# Altium footprint library ACS711EEXLT-15AB-T.PcbLib: 1 footprints
Each footprint in its own frame and in the unit in brackets; x right, y up, seen from the top. Pads: shape width x height; smd on the part's side, far side on the other; paste and mask are expansions set on the pad; w line width, h text height; cw(c..) or ccw(c..) is an arc to the next point about the centre after c.
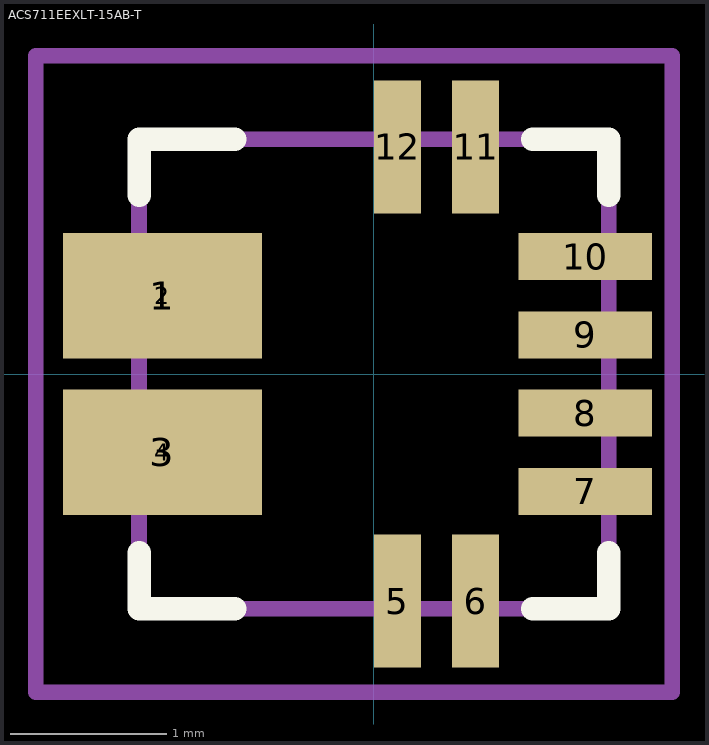
[diagram p0: the footprint, top view; thin cyan lines are the x and y axes]

## ACS711EEXLT-15AB-T [mm]
pads (12):
  rect 1.27x0.8 smd: 1(-1.35,0.5) 3(-1.35,-0.5)
  rect 0.2x0.2 smd: 2(-1.35,0.5) 4(-1.35,-0.5)
  rect 0.3x0.85 smd: 5(0.15,-1.45) 6(0.65,-1.45) 11(0.65,1.45) 12(0.15,1.45)
  rect 0.85x0.3 smd: 7(1.35,-0.75) 8(1.35,-0.25) 9(1.35,0.25) 10(1.35,0.75)
Top Overlay:
  lines w0.15: -1.5,-1.143 -1.5,-1.5 -0.889,-1.5 ; -1.5,1.143 -1.5,1.5 -0.889,1.5 ; 1.016,-1.5 1.5,-1.5 1.5,-1.143 ; 1.016,1.5 1.5,1.5 1.5,1.143
Mechanical 13:
  lines w0.1: -1.5,-1.5 -1.5,1.5 1.5,1.5 1.5,-1.5 -1.5,-1.5
Mechanical 15:
  lines w0.1: -2.159,-2.032 -2.159,2.032 1.905,2.032 1.905,-2.032 -2.159,-2.032
3D body: height 0.9, standoff -0.01, extent -1.551,-1.525 1.449,1.475